# Altium footprint library Mechanical_3D.PcbLib: 98 footprints (part 4 of 7)
Each footprint in its own frame and in the unit in brackets; x right, y up, seen from the top. Pads: shape width x height; smd on the part's side, far side on the other; paste and mask are expansions set on the pad; w line width, h text height; cw(c..) or ccw(c..) is an arc to the next point about the centre after c.
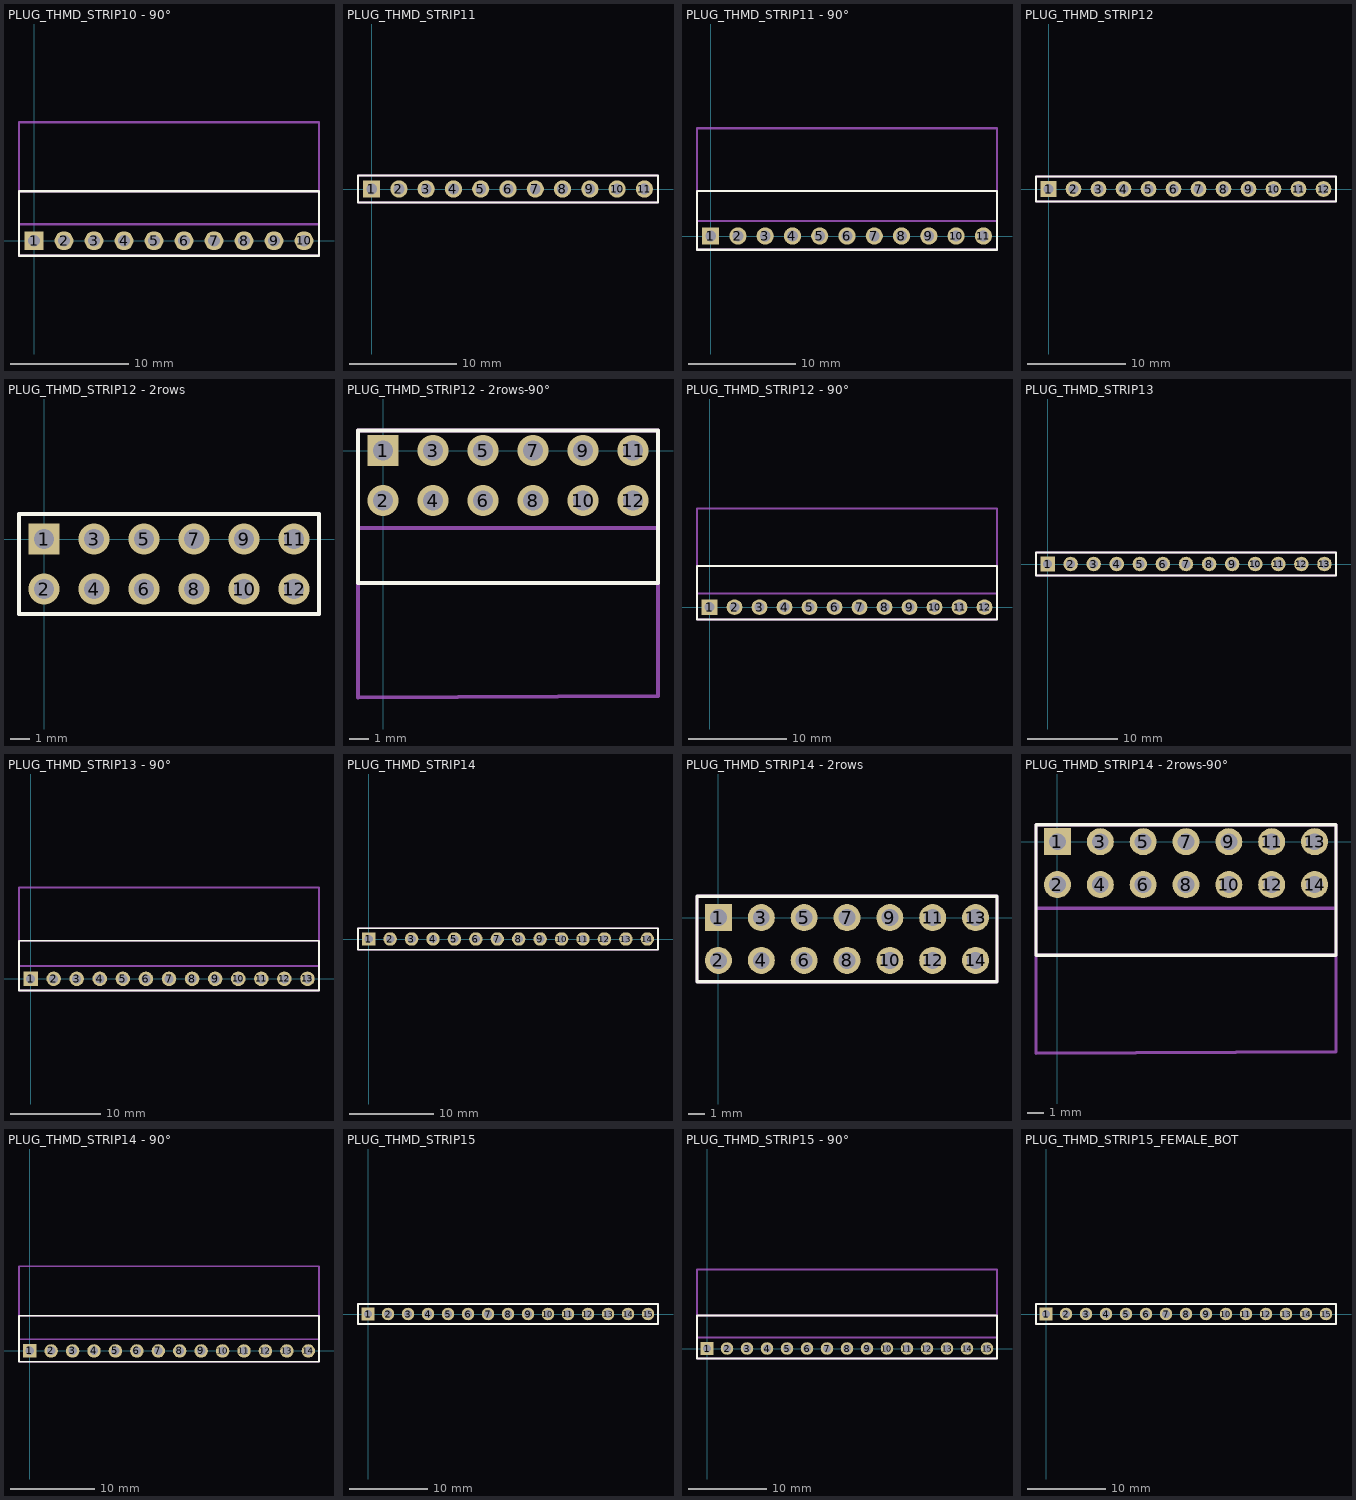
[diagram p3: the footprints below, top view; thin cyan lines are the x and y axes]

## PLUG_THMD_STRIP10 - 90° [mm]
pads (10):
  rect 1.6x1.6 / inner round 1.524 / far side rect 1.6x1.6 hole 1 paste+0 mask+0: 1(0,0)
  round 1.6 / inner round 1.524 / far side round 1.6 hole 1 paste+0 mask+0: 2(2.54,0) 3(5.08,0) 4(7.62,0) 5(10.16,0) 6(12.7,0) 7(15.24,0) 8(17.78,0) 9(20.32,0) 10(22.86,0)
Top Overlay:
  lines w0.203: -1.27,1.27 -1.27,-1.27 ; 3.81,-1.27 -1.27,-1.27 ; -1.27,-1.27 -1.27,4.191 24.13,4.191 24.13,-1.27 -1.27,-1.27
Mechanical 13:
  lines w0.2: -1.27,1.397 24.13,1.397 24.13,4.191 -1.27,4.191 -1.27,1.397
  text "1" at -2.156,-0.448 h0.95
Mechanical 15:
  lines w0.203: -1.27,-1.27 -1.27,10.033 24.13,10.033 24.13,-1.27 -1.27,-1.27
3D body "Stripline_1row90_deg.stp": height 2.54, standoff -3, extent 16.51,-0.354 19.05,10.006
3D body "Stripline_1row90_deg.stp": height 2.54, standoff -3, extent 13.97,-0.354 16.51,10.006
3D body "Stripline_1row90_deg.stp": height 2.54, standoff -3, extent 11.43,-0.354 13.97,10.006
3D body "Stripline_1row90_deg.stp": height 2.54, standoff -3, extent 8.89,-0.354 11.43,10.006
3D body "Stripline_1row90_deg.stp": height 2.54, standoff -3, extent 6.35,-0.354 8.89,10.006
3D body "Stripline_1row90_deg.stp": height 2.54, standoff -3, extent 3.81,-0.354 6.35,10.006
3D body "Stripline_1row90_deg.stp": height 2.54, standoff -3, extent 1.27,-0.354 3.81,10.006
3D body "Stripline_1row90_deg.stp": height 2.54, standoff -3, extent -1.27,-0.354 1.27,10.006
3D body "Stripline_1row90_deg.stp": height 2.54, standoff -3, extent 19.05,-0.354 21.59,10.006
3D body "Stripline_1row90_deg.stp": height 2.54, standoff -3, extent 21.59,-0.354 24.13,10.006

## PLUG_THMD_STRIP11 [mm]
pads (11):
  rect 1.6x1.6 / inner round 1.524 / far side rect 1.6x1.6 hole 1 paste+0 mask+0: 1(0,0)
  round 1.6 / inner round 1.524 / far side round 1.6 hole 1 paste+0 mask+0: 2(2.54,0) 3(5.08,0) 4(7.62,0) 5(10.16,0) 6(12.7,0) 7(15.24,0) 8(17.78,0) 9(20.32,0) 10(22.86,0) 11(25.4,0)
Top Overlay:
  lines w0.203: -1.27,-1.27 26.67,-1.27 26.67,1.27 -1.27,1.27 -1.27,-1.27
Mechanical 13:
  lines w0.203: -1.27,-1.27 26.67,-1.27 26.67,1.27 -1.27,1.27 -1.27,-1.27
  text "1" at -2.156,-0.448 h0.95
3D body "Stripline_1.stp": height 8.57, standoff -2.97, extent 24.13,-1.27 26.67,1.27
3D body "Stripline_1.stp": height 8.57, standoff -2.97, extent 21.59,-1.27 24.13,1.27
3D body "Stripline_1.stp": height 8.57, standoff -2.97, extent 16.51,-1.27 19.05,1.27
3D body "Stripline_1.stp": height 8.57, standoff -2.97, extent 11.43,-1.27 13.97,1.27
3D body "Stripline_1.stp": height 8.57, standoff -2.97, extent -1.27,-1.27 1.27,1.27
3D body "Stripline_1.stp": height 8.57, standoff -2.97, extent 1.27,-1.27 3.81,1.27
3D body "Stripline_1.stp": height 8.57, standoff -2.97, extent 3.81,-1.27 6.35,1.27
3D body "Stripline_1.stp": height 8.57, standoff -2.97, extent 6.35,-1.27 8.89,1.27
3D body "Stripline_1.stp": height 8.57, standoff -2.97, extent 8.89,-1.27 11.43,1.27
3D body "Stripline_1.stp": height 8.57, standoff -2.97, extent 13.97,-1.27 16.51,1.27
3D body "Stripline_1.stp": height 8.57, standoff -2.97, extent 19.05,-1.27 21.59,1.27

## PLUG_THMD_STRIP11 - 90° [mm]
pads (11):
  rect 1.6x1.6 / inner round 1.524 / far side rect 1.6x1.6 hole 1 paste+0 mask+0: 1(0,0)
  round 1.6 / inner round 1.524 / far side round 1.6 hole 1 paste+0 mask+0: 2(2.54,0) 3(5.08,0) 4(7.62,0) 5(10.16,0) 6(12.7,0) 7(15.24,0) 8(17.78,0) 9(20.32,0) 10(22.86,0) 11(25.4,0)
Top Overlay:
  lines w0.203: -1.27,1.27 -1.27,-1.27 ; 3.81,-1.27 -1.27,-1.27 ; -1.27,-1.27 -1.27,4.191 26.67,4.191 26.67,-1.27 -1.27,-1.27
Mechanical 13:
  lines w0.2: -1.27,1.397 26.67,1.397 26.67,4.191 -1.27,4.191 -1.27,1.397
  text "1" at -2.156,-0.448 h0.95
Mechanical 15:
  lines w0.203: -1.27,-1.27 -1.27,10.033 26.67,10.033 26.67,-1.27 -1.27,-1.27
3D body "Stripline_1row90_deg.stp": height 2.54, standoff -3, extent 24.13,-0.354 26.67,10.006
3D body "Stripline_1row90_deg.stp": height 2.54, standoff -3, extent 16.51,-0.354 19.05,10.006
3D body "Stripline_1row90_deg.stp": height 2.54, standoff -3, extent 13.97,-0.354 16.51,10.006
3D body "Stripline_1row90_deg.stp": height 2.54, standoff -3, extent 11.43,-0.354 13.97,10.006
3D body "Stripline_1row90_deg.stp": height 2.54, standoff -3, extent 8.89,-0.354 11.43,10.006
3D body "Stripline_1row90_deg.stp": height 2.54, standoff -3, extent 6.35,-0.354 8.89,10.006
3D body "Stripline_1row90_deg.stp": height 2.54, standoff -3, extent 3.81,-0.354 6.35,10.006
3D body "Stripline_1row90_deg.stp": height 2.54, standoff -3, extent 1.27,-0.354 3.81,10.006
3D body "Stripline_1row90_deg.stp": height 2.54, standoff -3, extent -1.27,-0.354 1.27,10.006
3D body "Stripline_1row90_deg.stp": height 2.54, standoff -3, extent 19.05,-0.354 21.59,10.006
3D body "Stripline_1row90_deg.stp": height 2.54, standoff -3, extent 21.59,-0.354 24.13,10.006

## PLUG_THMD_STRIP12 [mm]
pads (12):
  rect 1.6x1.6 / inner round 1.524 / far side rect 1.6x1.6 hole 1 paste+0 mask+0: 1(0,0)
  round 1.6 / inner round 1.524 / far side round 1.6 hole 1 paste+0 mask+0: 2(2.54,0) 3(5.08,0) 4(7.62,0) 5(10.16,0) 6(12.7,0) 7(15.24,0) 8(17.78,0) 9(20.32,0) 10(22.86,0) 11(25.4,0) 12(27.94,0)
Top Overlay:
  lines w0.203: -1.27,-1.27 -1.27,1.27 29.21,1.27 29.21,-1.27 -1.27,-1.27
Mechanical 13:
  lines w0.203: -1.27,-1.27 -1.27,1.27 29.21,1.27 29.21,-1.27 -1.27,-1.27
  text "1" at -2.156,-0.448 h0.95
3D body "Stripline_1.stp": height 8.57, standoff -2.97, extent 19.05,-1.27 21.59,1.27
3D body "Stripline_1.stp": height 8.57, standoff -2.97, extent 13.97,-1.27 16.51,1.27
3D body "Stripline_1.stp": height 8.57, standoff -2.97, extent 8.89,-1.27 11.43,1.27
3D body "Stripline_1.stp": height 8.57, standoff -2.97, extent 6.35,-1.27 8.89,1.27
3D body "Stripline_1.stp": height 8.57, standoff -2.97, extent 3.81,-1.27 6.35,1.27
3D body "Stripline_1.stp": height 8.57, standoff -2.97, extent 1.27,-1.27 3.81,1.27
3D body "Stripline_1.stp": height 8.57, standoff -2.97, extent -1.27,-1.27 1.27,1.27
3D body "Stripline_1.stp": height 8.57, standoff -2.97, extent 11.43,-1.27 13.97,1.27
3D body "Stripline_1.stp": height 8.57, standoff -2.97, extent 16.51,-1.27 19.05,1.27
3D body "Stripline_1.stp": height 8.57, standoff -2.97, extent 21.59,-1.27 24.13,1.27
3D body "Stripline_1.stp": height 8.57, standoff -2.97, extent 24.13,-1.27 26.67,1.27
3D body "Stripline_1.stp": height 8.57, standoff -2.97, extent 26.67,-1.27 29.21,1.27

## PLUG_THMD_STRIP12 - 2rows [mm]
pads (12):
  rect 1.6x1.6 / inner round 1.524 / far side rect 1.6x1.6 hole 1 paste+0 mask+0: 1(0,0)
  round 1.6 / inner round 1.524 / far side round 1.6 hole 1 paste+0 mask+0: 2(0,-2.54) 3(2.54,0) 4(2.54,-2.54) 5(5.08,0) 6(5.08,-2.54) 7(7.62,0) 8(7.62,-2.54) 9(10.16,0) 10(10.16,-2.54) 11(12.7,0) 12(12.7,-2.54)
Top Overlay:
  lines w0.203: -1.27,-3.81 13.97,-3.81 13.97,1.27 -1.27,1.27 -1.27,-3.81
Mechanical 13:
  lines w0.203: -1.27,-3.81 13.97,-3.81 13.97,1.27 -1.27,1.27 -1.27,-3.81
  text "1" at -2.156,-0.448 h0.95
3D body "Stripline_2row.stp": height 8.57, standoff -2.97, extent 6.35,-3.81 8.89,1.27
3D body "Stripline_2row.stp": height 8.57, standoff -2.97, extent 1.27,-3.81 3.81,1.27
3D body "Stripline_2row.stp": height 8.57, standoff -2.97, extent -1.27,-3.81 1.27,1.27
3D body "Stripline_2row.stp": height 8.57, standoff -2.97, extent 3.81,-3.81 6.35,1.27
3D body "Stripline_2row.stp": height 8.57, standoff -2.97, extent 8.89,-3.81 11.43,1.27
3D body "Stripline_2row.stp": height 8.57, standoff -2.97, extent 11.43,-3.81 13.97,1.27

## PLUG_THMD_STRIP12 - 2rows-90° [mm]
pads (12):
  rect 1.6x1.6 / inner round 1.524 / far side rect 1.6x1.6 hole 1 paste+0 mask+0: 1(0,0)
  round 1.6 / inner round 1.524 / far side round 1.6 hole 1 paste+0 mask+0: 2(0,-2.54) 3(2.54,0) 4(2.54,-2.54) 5(5.08,0) 6(5.08,-2.54) 7(7.62,0) 8(7.62,-2.54) 9(10.16,0) 10(10.16,-2.54) 11(12.7,0) 12(12.7,-2.54)
Top Overlay:
  lines w0.203: -1.27,-6.731 -1.27,1.016 13.97,1.016 13.97,-6.731 -1.27,-6.731
Mechanical 13:
  lines w0.2: -1.27,-6.731 13.97,-6.731 13.97,-3.937 -1.27,-3.937 -1.27,-6.731
  text "1" at -2.156,-0.448 h0.95
Mechanical 15:
  lines w0.203: -1.27,-12.548 -1.27,1.016 13.97,1.016 13.97,-12.471 -1.27,-12.548
3D body "Stripline_2row90_deg.stp": height 5.14, standoff -2.94, extent 8.89,-12.57 11.43,0.33
3D body "Stripline_2row90_deg.stp": height 5.14, standoff -2.94, extent 3.81,-12.57 6.35,0.33
3D body "Stripline_2row90_deg.stp": height 5.14, standoff -2.94, extent 1.27,-12.57 3.81,0.33
3D body "Stripline_2row90_deg.stp": height 5.14, standoff -2.94, extent -1.27,-12.57 1.27,0.33
3D body "Stripline_2row90_deg.stp": height 5.14, standoff -2.94, extent 6.35,-12.57 8.89,0.33
3D body "Stripline_2row90_deg.stp": height 5.14, standoff -2.94, extent 11.43,-12.57 13.97,0.33

## PLUG_THMD_STRIP12 - 90° [mm]
pads (12):
  rect 1.6x1.6 / inner round 1.524 / far side rect 1.6x1.6 hole 1 paste+0 mask+0: 1(0,0)
  round 1.6 / inner round 1.524 / far side round 1.6 hole 1 paste+0 mask+0: 2(2.54,0) 3(5.08,0) 4(7.62,0) 5(10.16,0) 6(12.7,0) 7(15.24,0) 8(17.78,0) 9(20.32,0) 10(22.86,0) 11(25.4,0) 12(27.94,0)
Top Overlay:
  lines w0.203: -1.27,1.27 -1.27,-1.27 ; 3.81,-1.27 -1.27,-1.27 ; -1.27,-1.27 -1.27,4.191 29.21,4.191 29.21,-1.27 -1.27,-1.27
Mechanical 13:
  lines w0.2: -1.27,1.397 29.21,1.397 29.21,4.191 -1.27,4.191 -1.27,1.397
  text "1" at -2.156,-0.448 h0.95
Mechanical 15:
  lines w0.203: -1.27,-1.27 -1.27,10.033 29.21,10.033 29.21,-1.27 -1.27,-1.27
3D body "Stripline_1row90_deg.stp": height 2.54, standoff -3, extent 24.13,-0.354 26.67,10.006
3D body "Stripline_1row90_deg.stp": height 2.54, standoff -3, extent 16.51,-0.354 19.05,10.006
3D body "Stripline_1row90_deg.stp": height 2.54, standoff -3, extent 13.97,-0.354 16.51,10.006
3D body "Stripline_1row90_deg.stp": height 2.54, standoff -3, extent 11.43,-0.354 13.97,10.006
3D body "Stripline_1row90_deg.stp": height 2.54, standoff -3, extent 8.89,-0.354 11.43,10.006
3D body "Stripline_1row90_deg.stp": height 2.54, standoff -3, extent 6.35,-0.354 8.89,10.006
3D body "Stripline_1row90_deg.stp": height 2.54, standoff -3, extent 3.81,-0.354 6.35,10.006
3D body "Stripline_1row90_deg.stp": height 2.54, standoff -3, extent 1.27,-0.354 3.81,10.006
3D body "Stripline_1row90_deg.stp": height 2.54, standoff -3, extent -1.27,-0.354 1.27,10.006
3D body "Stripline_1row90_deg.stp": height 2.54, standoff -3, extent 19.05,-0.354 21.59,10.006
3D body "Stripline_1row90_deg.stp": height 2.54, standoff -3, extent 21.59,-0.354 24.13,10.006
3D body "Stripline_1row90_deg.stp": height 2.54, standoff -3, extent 26.67,-0.354 29.21,10.006

## PLUG_THMD_STRIP13 [mm]
pads (13):
  rect 1.6x1.6 / inner round 1.524 / far side rect 1.6x1.6 hole 1 paste+0 mask+0: 1(0,0)
  round 1.6 / inner round 1.524 / far side round 1.6 hole 1 paste+0 mask+0: 2(2.54,0) 3(5.08,0) 4(7.62,0) 5(10.16,0) 6(12.7,0) 7(15.24,0) 8(17.78,0) 9(20.32,0) 10(22.86,0) 11(25.4,0) 12(27.94,0) 13(30.48,0)
Top Overlay:
  lines w0.203: -1.27,-1.27 31.75,-1.27 31.75,1.27 -1.27,1.27 -1.27,-1.27
Mechanical 13:
  lines w0.203: -1.27,-1.27 31.75,-1.27 31.75,1.27 -1.27,1.27 -1.27,-1.27
  text "1" at -2.156,-0.448 h0.95
3D body "Stripline_1.stp": height 8.57, standoff -2.97, extent 26.67,-1.27 29.21,1.27
3D body "Stripline_1.stp": height 8.57, standoff -2.97, extent 24.13,-1.27 26.67,1.27
3D body "Stripline_1.stp": height 8.57, standoff -2.97, extent 21.59,-1.27 24.13,1.27
3D body "Stripline_1.stp": height 8.57, standoff -2.97, extent 16.51,-1.27 19.05,1.27
3D body "Stripline_1.stp": height 8.57, standoff -2.97, extent 11.43,-1.27 13.97,1.27
3D body "Stripline_1.stp": height 8.57, standoff -2.97, extent -1.27,-1.27 1.27,1.27
3D body "Stripline_1.stp": height 8.57, standoff -2.97, extent 1.27,-1.27 3.81,1.27
3D body "Stripline_1.stp": height 8.57, standoff -2.97, extent 3.81,-1.27 6.35,1.27
3D body "Stripline_1.stp": height 8.57, standoff -2.97, extent 6.35,-1.27 8.89,1.27
3D body "Stripline_1.stp": height 8.57, standoff -2.97, extent 8.89,-1.27 11.43,1.27
3D body "Stripline_1.stp": height 8.57, standoff -2.97, extent 13.97,-1.27 16.51,1.27
3D body "Stripline_1.stp": height 8.57, standoff -2.97, extent 19.05,-1.27 21.59,1.27
3D body "Stripline_1.stp": height 8.57, standoff -2.97, extent 29.21,-1.27 31.75,1.27

## PLUG_THMD_STRIP13 - 90° [mm]
pads (13):
  rect 1.6x1.6 / inner round 1.524 / far side rect 1.6x1.6 hole 1 paste+0 mask+0: 1(0,0)
  round 1.6 / inner round 1.524 / far side round 1.6 hole 1 paste+0 mask+0: 2(2.54,0) 3(5.08,0) 4(7.62,0) 5(10.16,0) 6(12.7,0) 7(15.24,0) 8(17.78,0) 9(20.32,0) 10(22.86,0) 11(25.4,0) 12(27.94,0) 13(30.48,0)
Top Overlay:
  lines w0.203: -1.27,1.27 -1.27,-1.27 ; 3.81,-1.27 -1.27,-1.27 ; -1.27,-1.27 31.75,-1.27 31.75,4.191 -1.27,4.191 -1.27,-1.27
Mechanical 13:
  lines w0.2: -1.27,1.397 31.75,1.397 31.75,4.191 -1.27,4.191 -1.27,1.397
  text "1" at -2.156,-0.448 h0.95
Mechanical 15:
  lines w0.203: -1.27,-1.27 31.75,-1.27 31.75,10.033 -1.27,10.033 -1.27,-1.27
3D body "Stripline_1row90_deg.stp": height 2.54, standoff -3, extent 29.21,-0.354 31.75,10.006
3D body "Stripline_1row90_deg.stp": height 2.54, standoff -3, extent 26.67,-0.354 29.21,10.006
3D body "Stripline_1row90_deg.stp": height 2.54, standoff -3, extent 21.59,-0.354 24.13,10.006
3D body "Stripline_1row90_deg.stp": height 2.54, standoff -3, extent 19.05,-0.354 21.59,10.006
3D body "Stripline_1row90_deg.stp": height 2.54, standoff -3, extent -1.27,-0.354 1.27,10.006
3D body "Stripline_1row90_deg.stp": height 2.54, standoff -3, extent 1.27,-0.354 3.81,10.006
3D body "Stripline_1row90_deg.stp": height 2.54, standoff -3, extent 3.81,-0.354 6.35,10.006
3D body "Stripline_1row90_deg.stp": height 2.54, standoff -3, extent 6.35,-0.354 8.89,10.006
3D body "Stripline_1row90_deg.stp": height 2.54, standoff -3, extent 8.89,-0.354 11.43,10.006
3D body "Stripline_1row90_deg.stp": height 2.54, standoff -3, extent 11.43,-0.354 13.97,10.006
3D body "Stripline_1row90_deg.stp": height 2.54, standoff -3, extent 13.97,-0.354 16.51,10.006
3D body "Stripline_1row90_deg.stp": height 2.54, standoff -3, extent 16.51,-0.354 19.05,10.006
3D body "Stripline_1row90_deg.stp": height 2.54, standoff -3, extent 24.13,-0.354 26.67,10.006

## PLUG_THMD_STRIP14 [mm]
pads (14):
  rect 1.6x1.6 / inner round 1.524 / far side rect 1.6x1.6 hole 1 paste+0 mask+0: 1(0,0)
  round 1.6 / inner round 1.524 / far side round 1.6 hole 1 paste+0 mask+0: 2(2.54,0) 3(5.08,0) 4(7.62,0) 5(10.16,0) 6(12.7,0) 7(15.24,0) 8(17.78,0) 9(20.32,0) 10(22.86,0) 11(25.4,0) 12(27.94,0) 13(30.48,0) 14(33.02,0)
Top Overlay:
  lines w0.203: -1.27,-1.27 34.29,-1.27 34.29,1.27 -1.27,1.27 -1.27,-1.27
Mechanical 13:
  lines w0.203: -1.27,-1.27 34.29,-1.27 34.29,1.27 -1.27,1.27 -1.27,-1.27
  text "1" at -2.156,-0.448 h0.95
3D body "Stripline_1.stp": height 8.57, standoff -2.97, extent 31.75,-1.27 34.29,1.27
3D body "Stripline_1.stp": height 8.57, standoff -2.97, extent 26.67,-1.27 29.21,1.27
3D body "Stripline_1.stp": height 8.57, standoff -2.97, extent 24.13,-1.27 26.67,1.27
3D body "Stripline_1.stp": height 8.57, standoff -2.97, extent 21.59,-1.27 24.13,1.27
3D body "Stripline_1.stp": height 8.57, standoff -2.97, extent 16.51,-1.27 19.05,1.27
3D body "Stripline_1.stp": height 8.57, standoff -2.97, extent 11.43,-1.27 13.97,1.27
3D body "Stripline_1.stp": height 8.57, standoff -2.97, extent -1.27,-1.27 1.27,1.27
3D body "Stripline_1.stp": height 8.57, standoff -2.97, extent 1.27,-1.27 3.81,1.27
3D body "Stripline_1.stp": height 8.57, standoff -2.97, extent 3.81,-1.27 6.35,1.27
3D body "Stripline_1.stp": height 8.57, standoff -2.97, extent 6.35,-1.27 8.89,1.27
3D body "Stripline_1.stp": height 8.57, standoff -2.97, extent 8.89,-1.27 11.43,1.27
3D body "Stripline_1.stp": height 8.57, standoff -2.97, extent 13.97,-1.27 16.51,1.27
3D body "Stripline_1.stp": height 8.57, standoff -2.97, extent 19.05,-1.27 21.59,1.27
3D body "Stripline_1.stp": height 8.57, standoff -2.97, extent 29.21,-1.27 31.75,1.27

## PLUG_THMD_STRIP14 - 2rows [mm]
pads (14):
  rect 1.6x1.6 / inner round 1.524 / far side rect 1.6x1.6 hole 1 paste+0 mask+0: 1(0,0)
  round 1.6 / inner round 1.524 / far side round 1.6 hole 1 paste+0 mask+0: 2(0,-2.54) 3(2.54,0) 4(2.54,-2.54) 5(5.08,0) 6(5.08,-2.54) 7(7.62,0) 8(7.62,-2.54) 9(10.16,0) 10(10.16,-2.54) 11(12.7,0) 12(12.7,-2.54) 13(15.24,0) 14(15.24,-2.54)
Top Overlay:
  lines w0.203: -1.27,-3.81 16.51,-3.81 16.51,1.27 -1.27,1.27 -1.27,-3.81
Mechanical 13:
  lines w0.203: -1.27,-3.81 16.51,-3.81 16.51,1.27 -1.27,1.27 -1.27,-3.81
  text "1" at -2.156,-0.448 h0.95
3D body "Stripline_2row.stp": height 8.57, standoff -2.97, extent 13.97,-3.81 16.51,1.27
3D body "Stripline_2row.stp": height 8.57, standoff -2.97, extent 6.35,-3.81 8.89,1.27
3D body "Stripline_2row.stp": height 8.57, standoff -2.97, extent 1.27,-3.81 3.81,1.27
3D body "Stripline_2row.stp": height 8.57, standoff -2.97, extent -1.27,-3.81 1.27,1.27
3D body "Stripline_2row.stp": height 8.57, standoff -2.97, extent 3.81,-3.81 6.35,1.27
3D body "Stripline_2row.stp": height 8.57, standoff -2.97, extent 8.89,-3.81 11.43,1.27
3D body "Stripline_2row.stp": height 8.57, standoff -2.97, extent 11.43,-3.81 13.97,1.27

## PLUG_THMD_STRIP14 - 2rows-90° [mm]
pads (14):
  rect 1.6x1.6 / inner round 1.524 / far side rect 1.6x1.6 hole 1 paste+0 mask+0: 1(0,0)
  round 1.6 / inner round 1.524 / far side round 1.6 hole 1 paste+0 mask+0: 2(0,-2.54) 3(2.54,0) 4(2.54,-2.54) 5(5.08,0) 6(5.08,-2.54) 7(7.62,0) 8(7.62,-2.54) 9(10.16,0) 10(10.16,-2.54) 11(12.7,0) 12(12.7,-2.54) 13(15.24,0) 14(15.24,-2.54)
Top Overlay:
  lines w0.203: -1.27,-6.731 -1.27,1.016 16.51,1.016 16.51,-6.731 -1.27,-6.731
Mechanical 13:
  lines w0.2: -1.27,-6.731 -1.27,-3.937 16.51,-3.937 16.51,-6.731 -1.27,-6.731
  text "1" at -2.156,-0.448 h0.95
Mechanical 15:
  lines w0.203: -1.27,-12.548 -1.27,1.016 16.51,1.016 16.51,-12.459 -1.27,-12.548
3D body "Stripline_2row90_deg.stp": height 5.14, standoff -2.94, extent 8.89,-12.57 11.43,0.33
3D body "Stripline_2row90_deg.stp": height 5.14, standoff -2.94, extent 3.81,-12.57 6.35,0.33
3D body "Stripline_2row90_deg.stp": height 5.14, standoff -2.94, extent 1.27,-12.57 3.81,0.33
3D body "Stripline_2row90_deg.stp": height 5.14, standoff -2.94, extent -1.27,-12.57 1.27,0.33
3D body "Stripline_2row90_deg.stp": height 5.14, standoff -2.94, extent 6.35,-12.57 8.89,0.33
3D body "Stripline_2row90_deg.stp": height 5.14, standoff -2.94, extent 11.43,-12.57 13.97,0.33
3D body "Stripline_2row90_deg.stp": height 5.14, standoff -2.94, extent 13.97,-12.57 16.51,0.33

## PLUG_THMD_STRIP14 - 90° [mm]
pads (14):
  rect 1.6x1.6 / inner round 1.524 / far side rect 1.6x1.6 hole 1 paste+0 mask+0: 1(0,0)
  round 1.6 / inner round 1.524 / far side round 1.6 hole 1 paste+0 mask+0: 2(2.54,0) 3(5.08,0) 4(7.62,0) 5(10.16,0) 6(12.7,0) 7(15.24,0) 8(17.78,0) 9(20.32,0) 10(22.86,0) 11(25.4,0) 12(27.94,0) 13(30.48,0) 14(33.02,0)
Top Overlay:
  lines w0.203: -1.27,1.27 -1.27,-1.27 ; 3.81,-1.27 -1.27,-1.27 ; -1.27,-1.27 34.29,-1.27 34.29,4.191 -1.27,4.191 -1.27,-1.27
Mechanical 13:
  lines w0.2: -1.27,1.397 -1.27,4.191 34.29,4.191 34.29,1.397 -1.27,1.397
  text "1" at -2.156,-0.448 h0.95
Mechanical 15:
  lines w0.203: -1.27,-1.27 34.29,-1.27 34.29,10.033 -1.27,10.033 -1.27,-1.27
3D body "Stripline_1row90_deg.stp": height 2.54, standoff -3, extent 31.75,-0.354 34.29,10.006
3D body "Stripline_1row90_deg.stp": height 2.54, standoff -3, extent 29.21,-0.354 31.75,10.006
3D body "Stripline_1row90_deg.stp": height 2.54, standoff -3, extent 26.67,-0.354 29.21,10.006
3D body "Stripline_1row90_deg.stp": height 2.54, standoff -3, extent 21.59,-0.354 24.13,10.006
3D body "Stripline_1row90_deg.stp": height 2.54, standoff -3, extent 19.05,-0.354 21.59,10.006
3D body "Stripline_1row90_deg.stp": height 2.54, standoff -3, extent -1.27,-0.354 1.27,10.006
3D body "Stripline_1row90_deg.stp": height 2.54, standoff -3, extent 1.27,-0.354 3.81,10.006
3D body "Stripline_1row90_deg.stp": height 2.54, standoff -3, extent 3.81,-0.354 6.35,10.006
3D body "Stripline_1row90_deg.stp": height 2.54, standoff -3, extent 6.35,-0.354 8.89,10.006
3D body "Stripline_1row90_deg.stp": height 2.54, standoff -3, extent 8.89,-0.354 11.43,10.006
3D body "Stripline_1row90_deg.stp": height 2.54, standoff -3, extent 11.43,-0.354 13.97,10.006
3D body "Stripline_1row90_deg.stp": height 2.54, standoff -3, extent 13.97,-0.354 16.51,10.006
3D body "Stripline_1row90_deg.stp": height 2.54, standoff -3, extent 16.51,-0.354 19.05,10.006
3D body "Stripline_1row90_deg.stp": height 2.54, standoff -3, extent 24.13,-0.354 26.67,10.006

## PLUG_THMD_STRIP15 [mm]
pads (15):
  rect 1.6x1.6 / inner round 1.524 / far side rect 1.6x1.6 hole 1 paste+0 mask+0: 1(0,0)
  round 1.6 / inner round 1.524 / far side round 1.6 hole 1 paste+0 mask+0: 2(2.54,0) 3(5.08,0) 4(7.62,0) 5(10.16,0) 6(12.7,0) 7(15.24,0) 8(17.78,0) 9(20.32,0) 10(22.86,0) 11(25.4,0) 12(27.94,0) 13(30.48,0) 14(33.02,0) 15(35.56,0)
Top Overlay:
  lines w0.203: -1.27,-1.27 36.83,-1.27 36.83,1.27 -1.27,1.27 -1.27,-1.27
Mechanical 13:
  lines w0.203: -1.27,-1.27 36.83,-1.27 36.83,1.27 -1.27,1.27 -1.27,-1.27
  text "1" at -2.156,-0.448 h0.95
3D body "Stripline_1.stp": height 8.57, standoff -2.97, extent 34.29,-1.27 36.83,1.27
3D body "Stripline_1.stp": height 8.57, standoff -2.97, extent 31.75,-1.27 34.29,1.27
3D body "Stripline_1.stp": height 8.57, standoff -2.97, extent 26.67,-1.27 29.21,1.27
3D body "Stripline_1.stp": height 8.57, standoff -2.97, extent 24.13,-1.27 26.67,1.27
3D body "Stripline_1.stp": height 8.57, standoff -2.97, extent 21.59,-1.27 24.13,1.27
3D body "Stripline_1.stp": height 8.57, standoff -2.97, extent 16.51,-1.27 19.05,1.27
3D body "Stripline_1.stp": height 8.57, standoff -2.97, extent 11.43,-1.27 13.97,1.27
3D body "Stripline_1.stp": height 8.57, standoff -2.97, extent -1.27,-1.27 1.27,1.27
3D body "Stripline_1.stp": height 8.57, standoff -2.97, extent 1.27,-1.27 3.81,1.27
3D body "Stripline_1.stp": height 8.57, standoff -2.97, extent 3.81,-1.27 6.35,1.27
3D body "Stripline_1.stp": height 8.57, standoff -2.97, extent 6.35,-1.27 8.89,1.27
3D body "Stripline_1.stp": height 8.57, standoff -2.97, extent 8.89,-1.27 11.43,1.27
3D body "Stripline_1.stp": height 8.57, standoff -2.97, extent 13.97,-1.27 16.51,1.27
3D body "Stripline_1.stp": height 8.57, standoff -2.97, extent 19.05,-1.27 21.59,1.27
3D body "Stripline_1.stp": height 8.57, standoff -2.97, extent 29.21,-1.27 31.75,1.27

## PLUG_THMD_STRIP15 - 90° [mm]
pads (15):
  rect 1.6x1.6 / inner round 1.524 / far side rect 1.6x1.6 hole 1 paste+0 mask+0: 1(0,0)
  round 1.6 / inner round 1.524 / far side round 1.6 hole 1 paste+0 mask+0: 2(2.54,0) 3(5.08,0) 4(7.62,0) 5(10.16,0) 6(12.7,0) 7(15.24,0) 8(17.78,0) 9(20.32,0) 10(22.86,0) 11(25.4,0) 12(27.94,0) 13(30.48,0) 14(33.02,0) 15(35.56,0)
Top Overlay:
  lines w0.203: -1.27,1.27 -1.27,-1.27 ; 3.81,-1.27 -1.27,-1.27 ; -1.27,-1.27 -1.27,4.191 36.83,4.191 36.83,-1.27 -1.27,-1.27
Mechanical 13:
  lines w0.2: -1.27,1.397 36.83,1.397 36.83,4.191 -1.27,4.191 -1.27,1.397
  text "1" at -2.156,-0.448 h0.95
Mechanical 15:
  lines w0.203: -1.27,-1.27 -1.27,10.033 36.83,10.033 36.83,-1.27 -1.27,-1.27
3D body "Stripline_1row90_deg.stp": height 2.54, standoff -3, extent 34.29,-0.354 36.83,10.006
3D body "Stripline_1row90_deg.stp": height 2.54, standoff -3, extent 24.13,-0.354 26.67,10.006
3D body "Stripline_1row90_deg.stp": height 2.54, standoff -3, extent 16.51,-0.354 19.05,10.006
3D body "Stripline_1row90_deg.stp": height 2.54, standoff -3, extent 13.97,-0.354 16.51,10.006
3D body "Stripline_1row90_deg.stp": height 2.54, standoff -3, extent 11.43,-0.354 13.97,10.006
3D body "Stripline_1row90_deg.stp": height 2.54, standoff -3, extent 8.89,-0.354 11.43,10.006
3D body "Stripline_1row90_deg.stp": height 2.54, standoff -3, extent 6.35,-0.354 8.89,10.006
3D body "Stripline_1row90_deg.stp": height 2.54, standoff -3, extent 3.81,-0.354 6.35,10.006
3D body "Stripline_1row90_deg.stp": height 2.54, standoff -3, extent 1.27,-0.354 3.81,10.006
3D body "Stripline_1row90_deg.stp": height 2.54, standoff -3, extent -1.27,-0.354 1.27,10.006
3D body "Stripline_1row90_deg.stp": height 2.54, standoff -3, extent 19.05,-0.354 21.59,10.006
3D body "Stripline_1row90_deg.stp": height 2.54, standoff -3, extent 21.59,-0.354 24.13,10.006
3D body "Stripline_1row90_deg.stp": height 2.54, standoff -3, extent 26.67,-0.354 29.21,10.006
3D body "Stripline_1row90_deg.stp": height 2.54, standoff -3, extent 29.21,-0.354 31.75,10.006
3D body "Stripline_1row90_deg.stp": height 2.54, standoff -3, extent 31.75,-0.354 34.29,10.006

## PLUG_THMD_STRIP15_FEMALE_BOT [mm] "FEMALE BOTTOM MOUNT - silk Top"
pads (15):
  rect 1.6x1.6 / inner round 1.524 / far side rect 1.6x1.6 hole 1 paste+0 mask+0: 1(0,0)
  round 1.6 / inner round 1.524 / far side round 1.6 hole 1 paste+0 mask+0: 2(2.54,0) 3(5.08,0) 4(7.62,0) 5(10.16,0) 6(12.7,0) 7(15.24,0) 8(17.78,0) 9(20.32,0) 10(22.86,0) 11(25.4,0) 12(27.94,0) 13(30.48,0) 14(33.02,0) 15(35.56,0)
Top Overlay:
  lines w0.203: -1.27,-1.27 -1.27,1.27 36.83,1.27 36.83,-1.27 -1.27,-1.27
Mechanical 13:
  lines w0.203: -1.27,-1.27 -1.27,1.27 36.83,1.27 36.83,-1.27 -1.27,-1.27
  text "1" at -2.156,-0.448 h0.95
3D body "BL5-1.STEP": height 7, standoff -3.1, extent 34.29,-1.27 36.83,1.27
3D body "BL5-1.STEP": height 7, standoff -3.1, extent 31.75,-1.27 34.29,1.27
3D body "BL5-1.STEP": height 7, standoff -3.1, extent 29.21,-1.27 31.75,1.27
3D body "BL5-1.STEP": height 7, standoff -3.1, extent 26.67,-1.27 29.21,1.27
3D body "BL5-1.STEP": height 7, standoff -3.1, extent 24.13,-1.27 26.67,1.27
3D body "BL5-1.STEP": height 7, standoff -3.1, extent 21.59,-1.27 24.13,1.27
3D body "BL5-1.STEP": height 7, standoff -3.1, extent 19.05,-1.27 21.59,1.27
3D body "BL5-1.STEP": height 7, standoff -3.1, extent 16.51,-1.27 19.05,1.27
3D body "BL5-1.STEP": height 7, standoff -3.1, extent 13.97,-1.27 16.51,1.27
3D body "BL5-1.STEP": height 7, standoff -3.1, extent 11.43,-1.27 13.97,1.27
3D body "BL5-1.STEP": height 7, standoff -3.1, extent -1.27,-1.27 1.27,1.27
3D body "BL5-1.STEP": height 7, standoff -3.1, extent 1.27,-1.27 3.81,1.27
3D body "BL5-1.STEP": height 7, standoff -3.1, extent 3.81,-1.27 6.35,1.27
3D body "BL5-1.STEP": height 7, standoff -3.1, extent 6.35,-1.27 8.89,1.27
3D body "BL5-1.STEP": height 7, standoff -3.1, extent 8.89,-1.27 11.43,1.27